# EAGLE library part DRV8872 (library ICs)
3.6-A Brushed DC Motor Driver With Fault Reporting
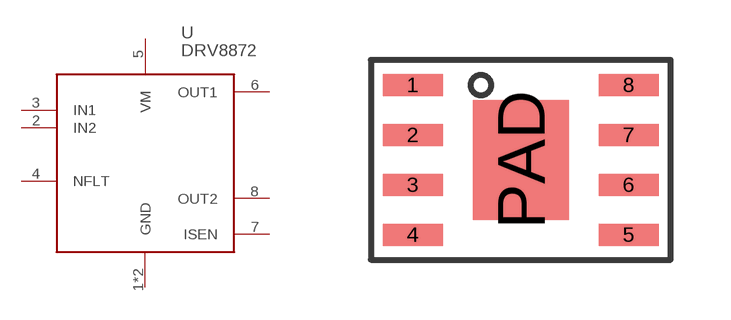
[diagram p110: symbol with the pads of SO8_PP; footprint SO8_PP]

Designator prefix U

## DRV8872 (DIGIKEY: 296-42661-1-ND; PRICE_PER: 2.16; VALUE: DRV8872)  [SO8_PP]
1  GND
2  IN2
3  IN1
4  NFLT
5  VM
6  OUT1
7  ISEN
8  OUT2
PAD  GND

## Footprint SO8_PP (pad centres in mm)
smd 1.5 x 0.55: 1 -2.7,1.875; 2 -2.7,0.625; 3 -2.7,-0.625; 4 -2.7,-1.875; 5 2.7,-1.875; 6 2.7,-0.625; 7 2.7,0.625; 8 2.7,1.875
smd 2.4 x 3: PAD 0,0